# Altium schematic symbol library DS1390.SchLib: 1 symbol
Pins are listed as number, name and electrical type; pins without a type are passive.

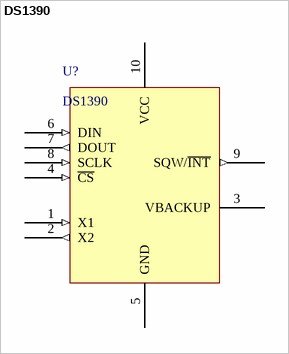
[diagram p0: symbol DS1390]

## DS1390
designator U?
pins: 1 X1 (in), 2 X2 (out), 3 VBACKUP (power), 4 ~{CS} (in), 5 GND (power), 6 DIN (in), 7 DOUT (out), 8 SCLK (in), 9 SQW/~{INT} (out), 10 VCC (power)